# EAGLE library part USB-A (library Zoli2_2015-02-22)
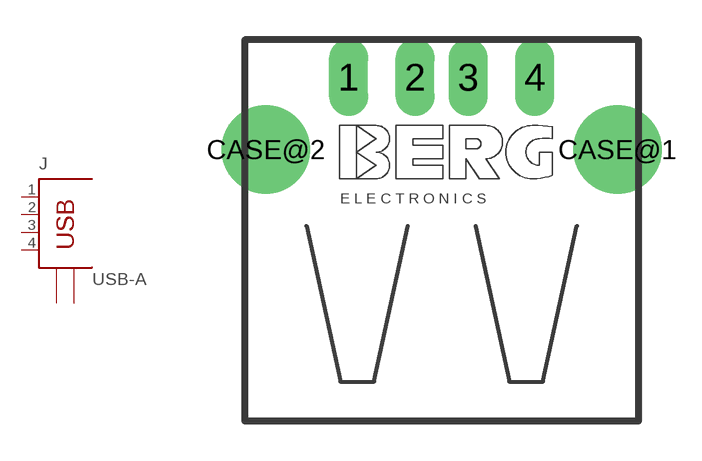
[diagram p27: symbol with the pads of USBCONNA; footprint USBCONNA]

Designator prefix J

## USB-A  [USBCONNA]
1  1
2  2
3  3
4  4
CASE@1  CASE
CASE@2  CASE

## Footprint USBCONNA (pad centres in mm)
USB connector
drill 0.95 long: 1 -3.5,2.71; 2 -1,2.71; 3 1,2.71; 4 3.5,2.71
drill 2.3 round: CASE@1 6.604,0; CASE@2 -6.604,0